# Altium schematic symbol library FTSH-107-03-L-DV-ES.SchLib: 1 symbol
Pins are listed as number, name and electrical type; pins without a type are passive.

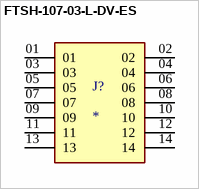
[diagram p0: symbol FTSH-107-03-L-DV-ES]

## FTSH-107-03-L-DV-ES
designator J?
Connector Header Surface Mount 14 position 0.050 (1.27mm); MP: FTSH-107-03-L-DV-ES; MF: Samtec; Package: None; SnapEDA_Link: https://www.snapeda.com/parts/FTSH-107-03-L-DV-ES/Samtec/view-part/?ref=snap; Purchase-URL: https://pricing.snapeda.com/search/part/FTSH-107-03-L-DV-ES/?ref=eda; Value: *; Availability: In Stock; Price: None; Check_prices: https://www.snapeda.com/parts/FTSH-107-03-L-DV-ES/Samtec/view-part/?ref=eda
footprint SAMTEC_FTSH-107-03-L-DV-ES
pins: 01, 02, 03, 04, 05, 06, 07, 08, 09, 10, 11, 12, 13, 14